# Altium footprint library OS102011MA1QS1.PcbLib: 1 footprints
Each footprint in its own frame and in the unit in brackets; x right, y up, seen from the top. Pads: shape width x height; smd on the part's side, far side on the other; paste and mask are expansions set on the pad; w line width, h text height; cw(c..) or ccw(c..) is an arc to the next point about the centre after c.
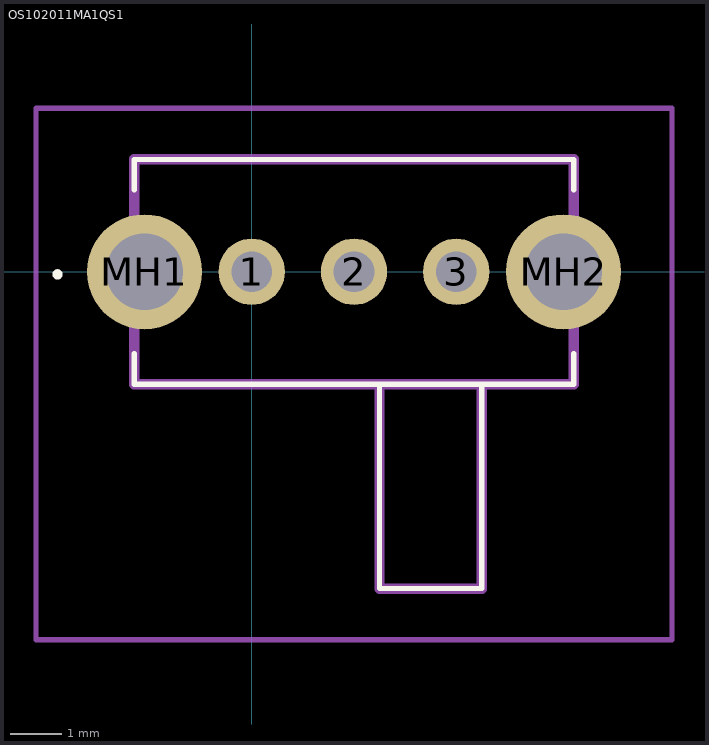
[diagram p0: the footprint, top view; thin cyan lines are the x and y axes]

## OS102011MA1QS1 [mm]
pads (5):
  round 1.3 hole 0.8: 1(0,0) 2(2,0) 3(4,0)
  round 2.25 hole 1.5: MH1(-2.1,0) MH2(6.1,0)
Top Overlay:
  lines w0.1: -2.3,-1.6 -2.3,-2.2 6.3,-2.2 6.3,-1.6 ; -2.3,1.6 -2.3,2.2 6.3,2.2 6.3,1.6 ; 2.5,-2.2 2.5,-6.2 4.5,-6.2 4.5,-2.2 ; -3.8,-0.1 cw(c-3.8,-0.05) -3.8,0 ; -3.8,-0.1 -3.8,-0.1 ; -3.8,-0.1 ccw(c-3.8,-0.05) -3.8,0 ; -3.8,0 -3.8,0
Mechanical 15:
  lines w0.2: 2.5,-2.2 2.5,-6.2 4.5,-6.2 4.5,-2.2 ; -2.3,-2.2 6.3,-2.2 6.3,2.2 -2.3,2.2 -2.3,-2.2
Mechanical 20:
  lines w0.1: -4.225,-7.2 8.225,-7.2 8.225,3.2 -4.225,3.2 -4.225,-7.2